# Altium schematic symbol library TLV766-Q1.Schlib: 1 symbol
Pins are listed as number, name and electrical type; pins without a type are passive.

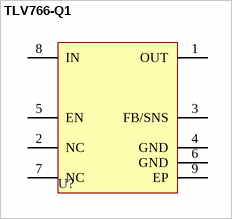
[diagram p0: symbol TLV766-Q1]

## TLV766-Q1
designator U?
TLV766xxQWDRBRQ1: / 01 = adj / 12 = 1.2V / 18 = 1.8V / 33 = 3.3V / 50 = 5.0V
pins: 1 OUT (power), 2 NC, 3 FB/SNS, 4 GND (power), 5 EN, 6 GND (power), 7 NC, 8 IN (power), 9 EP (power)